# EAGLE library part BQ21040 (library tinyav-lib)
Lithium-ion battery charger. VIN: 3.5V - 28V
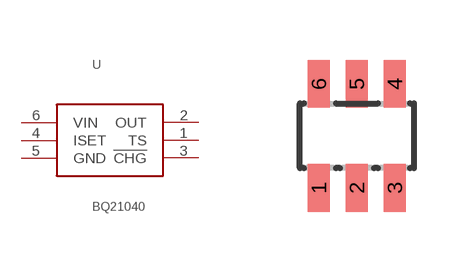
[diagram p2: symbol with the pads of SOT23-6L; footprint SOT23-6L]

Designator prefix -

## BQ21040  [SOT23-6L]
1  TS
2  OUT
3  !CHG
4  ISET
5  GND
6  VIN

## Footprint SOT23-6L (pad centres in mm)
Small Outline Transistor package type OT
smd 0.55 x 1.2: 1 -0.95,-1.3; 2 0,-1.3; 3 0.95,-1.3; 4 0.95,1.3; 5 0,1.3; 6 -0.95,1.3